# Altium schematic symbol library WE-XHMA.SchLib: 33 symbols
Pins are listed as number, name and electrical type; pins without a type are passive.

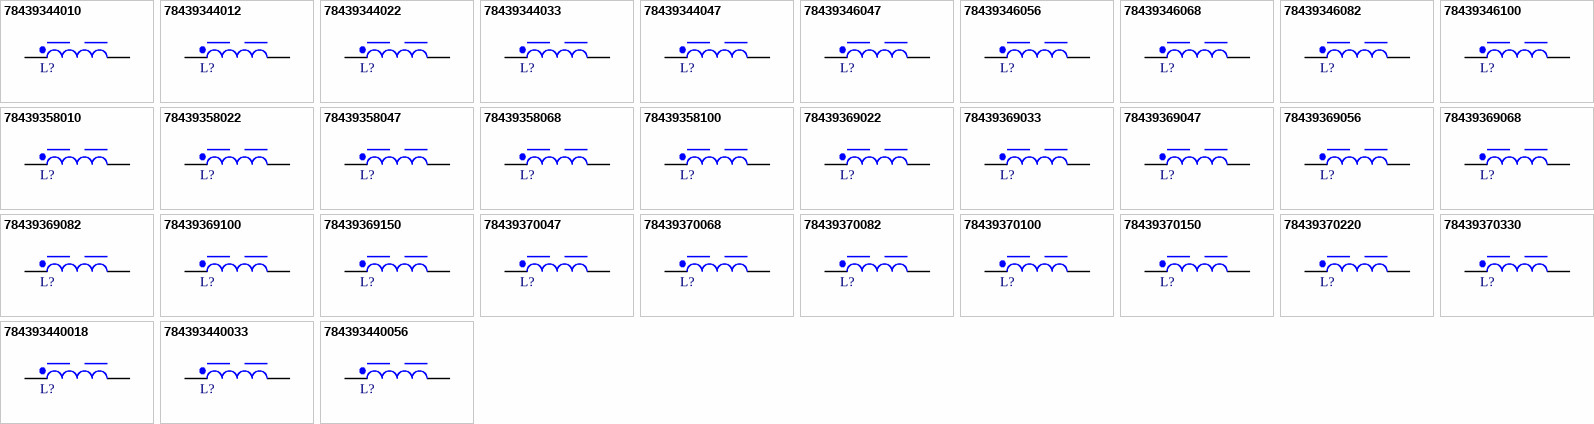
[diagram p0: symbols 78439344010 to 784393440056]

## 78439344010
designator L?, comment 1µH  (value not drawn)
WE-XHMA SMD Power Inductor, size 6030, 1µH, 12A, 5.5mΩ; Manufacturer Part Number: 78439344010; Manufacturer: Wurth Elektronik; Case/Size Code: 6030; Inductance Tolerance: 20%; Saturation Current: 24.95A; Self Resonant Frequency: 59MHz; ComponentLink1Description: Website Link; ComponentLink1URL: https://www.we-online.com/redexpert/article/78439344010?ad; ComponentLink2Description: Datasheet Link; ComponentLink2URL: https://www.we-online.com/redexpert/spec/78439344010?ad; Category: Shielded Power Inductors; Match Code: WE-XHMA; Mount: Surface Mount; Operating Temperature Max: 125°C; Operating Temperature Min: -40°C; Packaging: Tape and Reel; Length: 6.65mm; Width: 6.45mm; Height: 3mm; DC Resistance: 5.5mΩ; Inductance: 1µH; Rated Current: 12A
footprint WE-XHMA_6030
pins: 1, 2

## 78439344012
designator L?, comment 1.2µH  (value not drawn)
WE-XHMA SMD Power Inductor, size 6030, 1.2µH, 10.3A, 6.4mΩ; Manufacturer Part Number: 78439344012; Manufacturer: Wurth Elektronik; Case/Size Code: 6030; Inductance Tolerance: 20%; Saturation Current: 21.6A; Self Resonant Frequency: 53MHz; ComponentLink1Description: Website Link; ComponentLink1URL: https://www.we-online.com/redexpert/article/78439344012?ad; ComponentLink2Description: Datasheet Link; ComponentLink2URL: https://www.we-online.com/redexpert/spec/78439344012?ad; Category: Shielded Power Inductors; Match Code: WE-XHMA; Mount: Surface Mount; Operating Temperature Max: 125°C; Operating Temperature Min: -40°C; Packaging: Tape and Reel; Length: 6.65mm; Width: 6.45mm; Height: 3mm; DC Resistance: 6.4mΩ; Inductance: 1.2µH; Rated Current: 10.3A
footprint WE-XHMA_6030
pins: 1, 2

## 78439344022
designator L?, comment 2.2µH  (value not drawn)
WE-XHMA SMD Power Inductor, size 6030, 2.2µH, 8A, 10.5mΩ; Manufacturer Part Number: 78439344022; Manufacturer: Wurth Elektronik; Case/Size Code: 6030; Inductance Tolerance: 20%; Saturation Current: 16.25A; Self Resonant Frequency: 37MHz; ComponentLink1Description: Website Link; ComponentLink1URL: https://www.we-online.com/redexpert/article/78439344022?ad; ComponentLink2Description: Datasheet Link; ComponentLink2URL: https://www.we-online.com/redexpert/spec/78439344022?ad; Category: Shielded Power Inductors; Match Code: WE-XHMA; Mount: Surface Mount; Operating Temperature Max: 125°C; Operating Temperature Min: -40°C; Packaging: Tape and Reel; Length: 6.65mm; Width: 6.45mm; Height: 3mm; DC Resistance: 10.5mΩ; Inductance: 2.2µH; Rated Current: 8A
footprint WE-XHMA_6030
pins: 1, 2

## 78439344033
designator L?, comment 3.3µH  (value not drawn)
WE-XHMA SMD Power Inductor, size 6030, 3.3µH, 6A, 19.2mΩ; Manufacturer Part Number: 78439344033; Manufacturer: Wurth Elektronik; Case/Size Code: 6030; Inductance Tolerance: 20%; Saturation Current: 14.5A; Self Resonant Frequency: 31MHz; ComponentLink1Description: Website Link; ComponentLink1URL: https://www.we-online.com/redexpert/article/78439344033?ad; ComponentLink2Description: Datasheet Link; ComponentLink2URL: https://www.we-online.com/redexpert/spec/78439344033?ad; Category: Shielded Power Inductors; Match Code: WE-XHMA; Mount: Surface Mount; Operating Temperature Max: 125°C; Operating Temperature Min: -40°C; Packaging: Tape and Reel; Length: 6.65mm; Width: 6.45mm; Height: 3mm; DC Resistance: 19.2mΩ; Inductance: 3.3µH; Rated Current: 6A
footprint WE-XHMA_6030
pins: 1, 2

## 78439344047
designator L?, comment 4.7µH  (value not drawn)
WE-XHMA SMD Power Inductor, size 6030, 4.7µH, 4.7A, 31mΩ; Manufacturer Part Number: 78439344047; Manufacturer: Wurth Elektronik; Case/Size Code: 6030; Inductance Tolerance: 20%; Saturation Current: 10.5A; Self Resonant Frequency: 28MHz; ComponentLink1Description: Website Link; ComponentLink1URL: https://www.we-online.com/redexpert/article/78439344047?ad; ComponentLink2Description: Datasheet Link; ComponentLink2URL: https://www.we-online.com/redexpert/spec/78439344047?ad; Category: Shielded Power Inductors; Match Code: WE-XHMA; Mount: Surface Mount; Operating Temperature Max: 125°C; Operating Temperature Min: -40°C; Packaging: Tape and Reel; Length: 6.65mm; Width: 6.45mm; Height: 3mm; DC Resistance: 31mΩ; Inductance: 4.7µH; Rated Current: 4.7A
footprint WE-XHMA_6030
pins: 1, 2

## 78439346047
designator L?, comment 4.7µH  (value not drawn)
WE-XHMA SMD Power Inductor, size 6060, 4.7µH, 7.4A, 13mΩ; Manufacturer Part Number: 78439346047; Manufacturer: Wurth Elektronik; Case/Size Code: 6060; Inductance Tolerance: 20%; Saturation Current: 13A; Self Resonant Frequency: 28MHz; ComponentLink1Description: Website Link; ComponentLink1URL: https://www.we-online.com/redexpert/article/78439346047?ad; ComponentLink2Description: Datasheet Link; ComponentLink2URL: https://www.we-online.com/redexpert/spec/78439346047?ad; Category: Shielded Power Inductors; Match Code: WE-XHMA; Mount: Surface Mount; Operating Temperature Max: 125°C; Operating Temperature Min: -40°C; Packaging: Tape and Reel; Length: 6.65mm; Width: 6.45mm; Height: 5.8mm; DC Resistance: 13mΩ; Inductance: 4.7µH; Rated Current: 7.4A
footprint WE-XHMA_6060
pins: 1, 2

## 78439346056
designator L?, comment 5.6µH  (value not drawn)
WE-XHMA SMD Power Inductor, size 6060, 5.6µH, 6.9A, 15mΩ; Manufacturer Part Number: 78439346056; Manufacturer: Wurth Elektronik; Case/Size Code: 6060; Inductance Tolerance: 20%; Saturation Current: 12.1A; Self Resonant Frequency: 25MHz; ComponentLink1Description: Website Link; ComponentLink1URL: https://www.we-online.com/redexpert/article/78439346056?ad; ComponentLink2Description: Datasheet Link; ComponentLink2URL: https://www.we-online.com/redexpert/spec/78439346056?ad; Category: Shielded Power Inductors; Match Code: WE-XHMA; Mount: Surface Mount; Operating Temperature Max: 125°C; Operating Temperature Min: -40°C; Packaging: Tape and Reel; Length: 6.65mm; Width: 6.45mm; Height: 5.8mm; DC Resistance: 15mΩ; Inductance: 5.6µH; Rated Current: 6.9A
footprint WE-XHMA_6060
pins: 1, 2

## 78439346068
designator L?, comment 6.8µH  (value not drawn)
WE-XHMA SMD Power Inductor, size 6060, 6.8µH, 6.5A, 17.6mΩ; Manufacturer Part Number: 78439346068; Manufacturer: Wurth Elektronik; Case/Size Code: 6060; Inductance Tolerance: 20%; Saturation Current: 11.3A; Self Resonant Frequency: 22MHz; ComponentLink1Description: Website Link; ComponentLink1URL: https://www.we-online.com/redexpert/article/78439346068?ad; ComponentLink2Description: Datasheet Link; ComponentLink2URL: https://www.we-online.com/redexpert/spec/78439346068?ad; Category: Shielded Power Inductors; Match Code: WE-XHMA; Mount: Surface Mount; Operating Temperature Max: 125°C; Operating Temperature Min: -40°C; Packaging: Tape and Reel; Length: 6.65mm; Width: 6.45mm; Height: 5.8mm; DC Resistance: 17.6mΩ; Inductance: 6.8µH; Rated Current: 6.5A
footprint WE-XHMA_6060
pins: 1, 2

## 78439346082
designator L?, comment 8.2µH  (value not drawn)
WE-XHMA SMD Power Inductor, size 6060, 8.2µH, 5.3A, 23mΩ; Manufacturer Part Number: 78439346082; Manufacturer: Wurth Elektronik; Case/Size Code: 6060; Inductance Tolerance: 20%; Saturation Current: 9.3A; Self Resonant Frequency: 19MHz; ComponentLink1Description: Website Link; ComponentLink1URL: https://www.we-online.com/redexpert/article/78439346082?ad; ComponentLink2Description: Datasheet Link; ComponentLink2URL: https://www.we-online.com/redexpert/spec/78439346082?ad; Category: Shielded Power Inductors; Match Code: WE-XHMA; Mount: Surface Mount; Operating Temperature Max: 125°C; Operating Temperature Min: -40°C; Packaging: Tape and Reel; Length: 6.65mm; Width: 6.45mm; Height: 5.8mm; DC Resistance: 23mΩ; Inductance: 8.2µH; Rated Current: 5.3A
footprint WE-XHMA_6060
pins: 1, 2

## 78439346100
designator L?, comment 10µH  (value not drawn)
WE-XHMA SMD Power Inductor, size 6060, 10µH, 5A, 26.5mΩ; Manufacturer Part Number: 78439346100; Manufacturer: Wurth Elektronik; Case/Size Code: 6060; Inductance Tolerance: 20%; Saturation Current: 9.7A; Self Resonant Frequency: 18MHz; ComponentLink1Description: Website Link; ComponentLink1URL: https://www.we-online.com/redexpert/article/78439346100?ad; ComponentLink2Description: Datasheet Link; ComponentLink2URL: https://www.we-online.com/redexpert/spec/78439346100?ad; Category: Shielded Power Inductors; Match Code: WE-XHMA; Mount: Surface Mount; Operating Temperature Max: 125°C; Operating Temperature Min: -40°C; Packaging: Tape and Reel; Length: 6.65mm; Width: 6.45mm; Height: 5.8mm; DC Resistance: 26.5mΩ; Inductance: 10µH; Rated Current: 5A
footprint WE-XHMA_6060
pins: 1, 2

## 78439358010
designator L?, comment 1µH  (value not drawn)
WE-XHMA SMD Power Inductor, size 8080, 1µH, 17A, 2.1mΩ; Manufacturer Part Number: 78439358010; Manufacturer: Wurth Elektronik; Case/Size Code: 8080; Inductance Tolerance: 20%; Saturation Current: 38.15A; Self Resonant Frequency: 53MHz; ComponentLink1Description: Website Link; ComponentLink1URL: https://www.we-online.com/redexpert/article/78439358010?ad; ComponentLink2Description: Datasheet Link; ComponentLink2URL: https://www.we-online.com/redexpert/spec/78439358010?ad; Category: Shielded Power Inductors; Match Code: WE-XHMA; Mount: Surface Mount; Operating Temperature Max: 125°C; Operating Temperature Min: -40°C; Packaging: Tape and Reel; Length: 8.8mm; Width: 8.3mm; Height: 7.8mm; DC Resistance: 2.1mΩ; Inductance: 1µH; Rated Current: 17A
footprint WE-XHMA_8080
pins: 1, 2

## 78439358022
designator L?, comment 2.2µH  (value not drawn)
WE-XHMA SMD Power Inductor, size 8080, 2.2µH, 13A, 3.7mΩ; Manufacturer Part Number: 78439358022; Manufacturer: Wurth Elektronik; Case/Size Code: 8080; Inductance Tolerance: 20%; Saturation Current: 26.45A; Self Resonant Frequency: 33MHz; ComponentLink1Description: Website Link; ComponentLink1URL: https://www.we-online.com/redexpert/article/78439358022?ad; ComponentLink2Description: Datasheet Link; ComponentLink2URL: https://www.we-online.com/redexpert/spec/78439358022?ad; Category: Shielded Power Inductors; Match Code: WE-XHMA; Mount: Surface Mount; Operating Temperature Max: 125°C; Operating Temperature Min: -40°C; Packaging: Tape and Reel; Length: 8.8mm; Width: 8.3mm; Height: 7.8mm; DC Resistance: 3.7mΩ; Inductance: 2.2µH; Rated Current: 13A
footprint WE-XHMA_8080
pins: 1, 2

## 78439358047
designator L?, comment 4.7µH  (value not drawn)
WE-XHMA SMD Power Inductor, size 8080, 4.7µH, 9.5A, 8.65mΩ; Manufacturer Part Number: 78439358047; Manufacturer: Wurth Elektronik; Case/Size Code: 8080; Inductance Tolerance: 20%; Saturation Current: 16.65A; Self Resonant Frequency: 22MHz; ComponentLink1Description: Website Link; ComponentLink1URL: https://www.we-online.com/redexpert/article/78439358047?ad; ComponentLink2Description: Datasheet Link; ComponentLink2URL: https://www.we-online.com/redexpert/spec/78439358047?ad; Category: Shielded Power Inductors; Match Code: WE-XHMA; Mount: Surface Mount; Operating Temperature Max: 125°C; Operating Temperature Min: -40°C; Packaging: Tape and Reel; Length: 8.8mm; Width: 8.3mm; Height: 7.8mm; DC Resistance: 8.65mΩ; Inductance: 4.7µH; Rated Current: 9.5A
footprint WE-XHMA_8080
pins: 1, 2

## 78439358068
designator L?, comment 6.8µH  (value not drawn)
WE-XHMA SMD Power Inductor, size 8080, 6.8µH, 7.2A, 13mΩ; Manufacturer Part Number: 78439358068; Manufacturer: Wurth Elektronik; Case/Size Code: 8080; Inductance Tolerance: 20%; Saturation Current: 17.6A; Self Resonant Frequency: 22MHz; ComponentLink1Description: Website Link; ComponentLink1URL: https://www.we-online.com/redexpert/article/78439358068?ad; ComponentLink2Description: Datasheet Link; ComponentLink2URL: https://www.we-online.com/redexpert/spec/78439358068?ad; Category: Shielded Power Inductors; Match Code: WE-XHMA; Mount: Surface Mount; Operating Temperature Max: 125°C; Operating Temperature Min: -40°C; Packaging: Tape and Reel; Length: 8.8mm; Width: 8.3mm; Height: 7.8mm; DC Resistance: 13mΩ; Inductance: 6.8µH; Rated Current: 7.2A
footprint WE-XHMA_8080
pins: 1, 2

## 78439358100
designator L?, comment 10µH  (value not drawn)
WE-XHMA SMD Power Inductor, size 8080, 10µH, 5.8A, 19mΩ; Manufacturer Part Number: 78439358100; Manufacturer: Wurth Elektronik; Case/Size Code: 8080; Inductance Tolerance: 20%; Saturation Current: 13.5A; Self Resonant Frequency: 17MHz; ComponentLink1Description: Website Link; ComponentLink1URL: https://www.we-online.com/redexpert/article/78439358100?ad; ComponentLink2Description: Datasheet Link; ComponentLink2URL: https://www.we-online.com/redexpert/spec/78439358100?ad; Category: Shielded Power Inductors; Match Code: WE-XHMA; Mount: Surface Mount; Operating Temperature Max: 125°C; Operating Temperature Min: -40°C; Packaging: Tape and Reel; Length: 8.8mm; Width: 8.3mm; Height: 7.8mm; DC Resistance: 19mΩ; Inductance: 10µH; Rated Current: 5.8A
footprint WE-XHMA_8080
pins: 1, 2

## 78439369022
designator L?, comment 2.2µH  (value not drawn)
WE-XHMA SMD Power Inductor, size 1090, 2.2µH, 16A, 2.2mΩ; Manufacturer Part Number: 78439369022; Manufacturer: Wurth Elektronik; Case/Size Code: 1090; Inductance Tolerance: 20%; Saturation Current: 32.1A; Self Resonant Frequency: 28MHz; ComponentLink1Description: Website Link; ComponentLink1URL: https://www.we-online.com/redexpert/article/78439369022?ad; ComponentLink2Description: Datasheet Link; ComponentLink2URL: https://www.we-online.com/redexpert/spec/78439369022?ad; Category: Shielded Power Inductors; Match Code: WE-XHMA; Mount: Surface Mount; Operating Temperature Max: 125°C; Operating Temperature Min: -40°C; Packaging: Tape and Reel; Length: 11.6mm; Width: 10.5mm; Height: 8.8mm; DC Resistance: 2.2mΩ; Inductance: 2.2µH; Rated Current: 16A
footprint WE-XHMA_1090
pins: 1, 2

## 78439369033
designator L?, comment 3.3µH  (value not drawn)
WE-XHMA SMD Power Inductor, size 1090, 3.3µH, 15A, 3.4mΩ; Manufacturer Part Number: 78439369033; Manufacturer: Wurth Elektronik; Case/Size Code: 1090; Inductance Tolerance: 20%; Saturation Current: 34A; Self Resonant Frequency: 23MHz; ComponentLink1Description: Website Link; ComponentLink1URL: https://www.we-online.com/redexpert/article/78439369033?ad; ComponentLink2Description: Datasheet Link; ComponentLink2URL: https://www.we-online.com/redexpert/spec/78439369033?ad; Category: Shielded Power Inductors; Match Code: WE-XHMA; Mount: Surface Mount; Operating Temperature Max: 125°C; Operating Temperature Min: -40°C; Packaging: Tape and Reel; Length: 11.6mm; Width: 10.5mm; Height: 8.8mm; DC Resistance: 3.4mΩ; Inductance: 3.3µH; Rated Current: 15A
footprint WE-XHMA_1090
pins: 1, 2

## 78439369047
designator L?, comment 4.7µH  (value not drawn)
WE-XHMA SMD Power Inductor, size 1090, 4.7µH, 13.5A, 5mΩ; Manufacturer Part Number: 78439369047; Manufacturer: Wurth Elektronik; Case/Size Code: 1090; Inductance Tolerance: 20%; Saturation Current: 28.05A; Self Resonant Frequency: 21MHz; ComponentLink1Description: Website Link; ComponentLink1URL: https://www.we-online.com/redexpert/article/78439369047?ad; ComponentLink2Description: Datasheet Link; ComponentLink2URL: https://www.we-online.com/redexpert/spec/78439369047?ad; Category: Shielded Power Inductors; Match Code: WE-XHMA; Mount: Surface Mount; Operating Temperature Max: 125°C; Operating Temperature Min: -40°C; Packaging: Tape and Reel; Length: 11.6mm; Width: 10.5mm; Height: 8.8mm; DC Resistance: 5mΩ; Inductance: 4.7µH; Rated Current: 13.5A
footprint WE-XHMA_1090
pins: 1, 2

## 78439369056
designator L?, comment 5.6µH  (value not drawn)
WE-XHMA SMD Power Inductor, size 1090, 5.6µH, 11.5A, 5.9mΩ; Manufacturer Part Number: 78439369056; Manufacturer: Wurth Elektronik; Case/Size Code: 1090; Inductance Tolerance: 20%; Saturation Current: 24.45A; Self Resonant Frequency: 18MHz; ComponentLink1Description: Website Link; ComponentLink1URL: https://www.we-online.com/redexpert/article/78439369056?ad; ComponentLink2Description: Datasheet Link; ComponentLink2URL: https://www.we-online.com/redexpert/spec/78439369056?ad; Category: Shielded Power Inductors; Match Code: WE-XHMA; Mount: Surface Mount; Operating Temperature Max: 125°C; Operating Temperature Min: -40°C; Packaging: Tape and Reel; Length: 11.6mm; Width: 10.5mm; Height: 8.8mm; DC Resistance: 5.9mΩ; Inductance: 5.6µH; Rated Current: 11.5A
footprint WE-XHMA_1090
pins: 1, 2

## 78439369068
designator L?, comment 6.8µH  (value not drawn)
WE-XHMA SMD Power Inductor, size 1090, 6.8µH, 10.5A, 7.16mΩ; Manufacturer Part Number: 78439369068; Manufacturer: Wurth Elektronik; Case/Size Code: 1090; Inductance Tolerance: 20%; Saturation Current: 23.25A; Self Resonant Frequency: 16MHz; ComponentLink1Description: Website Link; ComponentLink1URL: https://www.we-online.com/redexpert/article/78439369068?ad; ComponentLink2Description: Datasheet Link; ComponentLink2URL: https://www.we-online.com/redexpert/spec/78439369068?ad; Category: Shielded Power Inductors; Match Code: WE-XHMA; Mount: Surface Mount; Operating Temperature Max: 125°C; Operating Temperature Min: -40°C; Packaging: Tape and Reel; Length: 11.6mm; Width: 10.5mm; Height: 8.8mm; DC Resistance: 7.16mΩ; Inductance: 6.8µH; Rated Current: 10.5A
footprint WE-XHMA_1090
pins: 1, 2

## 78439369082
designator L?, comment 8.2µH  (value not drawn)
WE-XHMA SMD Power Inductor, size 1090, 8.2µH, 9.8A, 10mΩ; Manufacturer Part Number: 78439369082; Manufacturer: Wurth Elektronik; Case/Size Code: 1090; Inductance Tolerance: 20%; Saturation Current: 20.45A; Self Resonant Frequency: 16MHz; ComponentLink1Description: Website Link; ComponentLink1URL: https://www.we-online.com/redexpert/article/78439369082?ad; ComponentLink2Description: Datasheet Link; ComponentLink2URL: https://www.we-online.com/redexpert/spec/78439369082?ad; Category: Shielded Power Inductors; Match Code: WE-XHMA; Mount: Surface Mount; Operating Temperature Max: 125°C; Operating Temperature Min: -40°C; Packaging: Tape and Reel; Length: 11.6mm; Width: 10.5mm; Height: 8.8mm; DC Resistance: 10mΩ; Inductance: 8.2µH; Rated Current: 9.8A
footprint WE-XHMA_1090
pins: 1, 2

## 78439369100
designator L?, comment 10µH  (value not drawn)
WE-XHMA SMD Power Inductor, size 1090, 10µH, 9.4A, 11mΩ; Manufacturer Part Number: 78439369100; Manufacturer: Wurth Elektronik; Case/Size Code: 1090; Inductance Tolerance: 20%; Saturation Current: 20.3A; Self Resonant Frequency: 14MHz; ComponentLink1Description: Website Link; ComponentLink1URL: https://www.we-online.com/redexpert/article/78439369100?ad; ComponentLink2Description: Datasheet Link; ComponentLink2URL: https://www.we-online.com/redexpert/spec/78439369100?ad; Category: Shielded Power Inductors; Match Code: WE-XHMA; Mount: Surface Mount; Operating Temperature Max: 125°C; Operating Temperature Min: -40°C; Packaging: Tape and Reel; Length: 11.6mm; Width: 10.5mm; Height: 8.8mm; DC Resistance: 11mΩ; Inductance: 10µH; Rated Current: 9.4A
footprint WE-XHMA_1090
pins: 1, 2

## 78439369150
designator L?, comment 15µH  (value not drawn)
WE-XHMA SMD Power Inductor, size 1090, 15µH, 8.3A, 14.8mΩ; Manufacturer Part Number: 78439369150; Manufacturer: Wurth Elektronik; Case/Size Code: 1090; Inductance Tolerance: 20%; Saturation Current: 16.95A; Self Resonant Frequency: 11MHz; ComponentLink1Description: Website Link; ComponentLink1URL: https://www.we-online.com/redexpert/article/78439369150?ad; ComponentLink2Description: Datasheet Link; ComponentLink2URL: https://www.we-online.com/redexpert/spec/78439369150?ad; Category: Shielded Power Inductors; Match Code: WE-XHMA; Mount: Surface Mount; Operating Temperature Max: 125°C; Operating Temperature Min: -40°C; Packaging: Tape and Reel; Length: 11.6mm; Width: 10.5mm; Height: 8.8mm; DC Resistance: 14.8mΩ; Inductance: 15µH; Rated Current: 8.3A
footprint WE-XHMA_1090
pins: 1, 2

## 78439370047
designator L?, comment 4.7µH  (value not drawn)
WE-XHMA SMD Power Inductor, size 1510, 4.7µH, 17A, 3.1mΩ; Manufacturer Part Number: 78439370047; Manufacturer: Wurth Elektronik; Case/Size Code: 1510; Inductance Tolerance: 20%; Saturation Current: 47.4A; Self Resonant Frequency: 16MHz; ComponentLink1Description: Website Link; ComponentLink1URL: https://www.we-online.com/redexpert/article/78439370047?ad; ComponentLink2Description: Datasheet Link; ComponentLink2URL: https://www.we-online.com/redexpert/spec/78439370047?ad; Category: Shielded Power Inductors; Match Code: WE-XHMA; Mount: Surface Mount; Operating Temperature Max: 125°C; Operating Temperature Min: -40°C; Packaging: Tape and Reel; Length: 16.4mm; Width: 15.4mm; Height: 10mm; DC Resistance: 3.1mΩ; Inductance: 4.7µH; Rated Current: 17A
footprint WE-XHMA_1510
pins: 1, 2

## 78439370068
designator L?, comment 6.8µH  (value not drawn)
WE-XHMA SMD Power Inductor, size 1510, 6.8µH, 15A, 4.1mΩ; Manufacturer Part Number: 78439370068; Manufacturer: Wurth Elektronik; Case/Size Code: 1510; Inductance Tolerance: 20%; Saturation Current: 40.05A; Self Resonant Frequency: 14MHz; ComponentLink1Description: Website Link; ComponentLink1URL: https://www.we-online.com/redexpert/article/78439370068?ad; ComponentLink2Description: Datasheet Link; ComponentLink2URL: https://www.we-online.com/redexpert/spec/78439370068?ad; Category: Shielded Power Inductors; Match Code: WE-XHMA; Mount: Surface Mount; Operating Temperature Max: 125°C; Operating Temperature Min: -40°C; Packaging: Tape and Reel; Length: 16.4mm; Width: 15.4mm; Height: 10mm; DC Resistance: 4.1mΩ; Inductance: 6.8µH; Rated Current: 15A
footprint WE-XHMA_1510
pins: 1, 2

## 78439370082
designator L?, comment 8.2µH  (value not drawn)
WE-XHMA SMD Power Inductor, size 1510, 8.2µH, 13A, 5.5mΩ; Manufacturer Part Number: 78439370082; Manufacturer: Wurth Elektronik; Case/Size Code: 1510; Inductance Tolerance: 20%; Saturation Current: 36.4A; Self Resonant Frequency: 11MHz; ComponentLink1Description: Website Link; ComponentLink1URL: https://www.we-online.com/redexpert/article/78439370082?ad; ComponentLink2Description: Datasheet Link; ComponentLink2URL: https://www.we-online.com/redexpert/spec/78439370082?ad; Category: Shielded Power Inductors; Match Code: WE-XHMA; Mount: Surface Mount; Operating Temperature Max: 125°C; Operating Temperature Min: -40°C; Packaging: Tape and Reel; Length: 16.4mm; Width: 15.4mm; Height: 10mm; DC Resistance: 5.5mΩ; Inductance: 8.2µH; Rated Current: 13A
footprint WE-XHMA_1510
pins: 1, 2

## 78439370100
designator L?, comment 10µH  (value not drawn)
WE-XHMA SMD Power Inductor, size 1510, 10µH, 11.5A, 6.4mΩ; Manufacturer Part Number: 78439370100; Manufacturer: Wurth Elektronik; Case/Size Code: 1510; Inductance Tolerance: 20%; Saturation Current: 31.2A; Self Resonant Frequency: 9MHz; ComponentLink1Description: Website Link; ComponentLink1URL: https://www.we-online.com/redexpert/article/78439370100?ad; ComponentLink2Description: Datasheet Link; ComponentLink2URL: https://www.we-online.com/redexpert/spec/78439370100?ad; Category: Shielded Power Inductors; Match Code: WE-XHMA; Mount: Surface Mount; Operating Temperature Max: 125°C; Operating Temperature Min: -40°C; Packaging: Tape and Reel; Length: 16.4mm; Width: 15.4mm; Height: 10mm; DC Resistance: 6.4mΩ; Inductance: 10µH; Rated Current: 11.5A
footprint WE-XHMA_1510
pins: 1, 2

## 78439370150
designator L?, comment 15µH  (value not drawn)
WE-XHMA SMD Power Inductor, size 1510, 15µH, 10A, 10.5mΩ; Manufacturer Part Number: 78439370150; Manufacturer: Wurth Elektronik; Case/Size Code: 1510; Inductance Tolerance: 20%; Saturation Current: 26.1A; Self Resonant Frequency: 8MHz; ComponentLink1Description: Website Link; ComponentLink1URL: https://www.we-online.com/redexpert/article/78439370150?ad; ComponentLink2Description: Datasheet Link; ComponentLink2URL: https://www.we-online.com/redexpert/spec/78439370150?ad; Category: Shielded Power Inductors; Match Code: WE-XHMA; Mount: Surface Mount; Operating Temperature Max: 125°C; Operating Temperature Min: -40°C; Packaging: Tape and Reel; Length: 16.4mm; Width: 15.4mm; Height: 10mm; DC Resistance: 10.5mΩ; Inductance: 15µH; Rated Current: 10A
footprint WE-XHMA_1510
pins: 1, 2

## 78439370220
designator L?, comment 22µH  (value not drawn)
WE-XHMA SMD Power Inductor, size 1510, 22µH, 8A, 12.5mΩ; Manufacturer Part Number: 78439370220; Manufacturer: Wurth Elektronik; Case/Size Code: 1510; Inductance Tolerance: 20%; Saturation Current: 22.35A; Self Resonant Frequency: 7MHz; ComponentLink1Description: Website Link; ComponentLink1URL: https://www.we-online.com/redexpert/article/78439370220?ad; ComponentLink2Description: Datasheet Link; ComponentLink2URL: https://www.we-online.com/redexpert/spec/78439370220?ad; Category: Shielded Power Inductors; Match Code: WE-XHMA; Mount: Surface Mount; Operating Temperature Max: 125°C; Operating Temperature Min: -40°C; Packaging: Tape and Reel; Length: 16.4mm; Width: 15.4mm; Height: 10mm; DC Resistance: 12.5mΩ; Inductance: 22µH; Rated Current: 8A
footprint WE-XHMA_1510
pins: 1, 2

## 78439370330
designator L?, comment 33µH  (value not drawn)
WE-XHMA SMD Power Inductor, size 1510, 33µH, 8.5A, 18mΩ; Manufacturer Part Number: 78439370330; Manufacturer: Wurth Elektronik; Case/Size Code: 1510; Inductance Tolerance: 20%; Saturation Current: 18.15A; Self Resonant Frequency: 5MHz; ComponentLink1Description: Website Link; ComponentLink1URL: https://www.we-online.com/redexpert/article/78439370330?ad; ComponentLink2Description: Datasheet Link; ComponentLink2URL: https://www.we-online.com/redexpert/spec/78439370330?ad; Category: Shielded Power Inductors; Match Code: WE-XHMA; Mount: Surface Mount; Operating Temperature Max: 125°C; Operating Temperature Min: -40°C; Packaging: Tape and Reel; Length: 16.4mm; Width: 15.4mm; Height: 10mm; DC Resistance: 18mΩ; Inductance: 33µH; Rated Current: 8.5A
footprint WE-XHMA_1510
pins: 1, 2

## 784393440018
designator L?, comment 0.18µH  (value not drawn)
WE-XHMA SMD Power Inductor, size 6030, 0.18µH, 20A, 1.32mΩ; Manufacturer Part Number: 784393440018; Manufacturer: Wurth Elektronik; Case/Size Code: 6030; Inductance Tolerance: 20%; Saturation Current: 50.6A; Self Resonant Frequency: 169MHz; ComponentLink1Description: Website Link; ComponentLink1URL: https://www.we-online.com/redexpert/article/784393440018?ad; ComponentLink2Description: Datasheet Link; ComponentLink2URL: https://www.we-online.com/redexpert/spec/784393440018?ad; Category: Shielded Power Inductors; Match Code: WE-XHMA; Mount: Surface Mount; Operating Temperature Max: 125°C; Operating Temperature Min: -40°C; Packaging: Tape and Reel; Length: 6.65mm; Width: 6.45mm; Height: 3mm; DC Resistance: 1.32mΩ; Inductance: 0.18µH; Rated Current: 20A
footprint WE-XHMA_6030
pins: 1, 2

## 784393440033
designator L?, comment 0.33µH  (value not drawn)
WE-XHMA SMD Power Inductor, size 6030, 0.33µH, 16.5A, 2.1mΩ; Manufacturer Part Number: 784393440033; Manufacturer: Wurth Elektronik; Case/Size Code: 6030; Inductance Tolerance: 20%; Saturation Current: 42.9A; Self Resonant Frequency: 113MHz; ComponentLink1Description: Website Link; ComponentLink1URL: https://www.we-online.com/redexpert/article/784393440033?ad; ComponentLink2Description: Datasheet Link; ComponentLink2URL: https://www.we-online.com/redexpert/spec/784393440033?ad; Category: Shielded Power Inductors; Match Code: WE-XHMA; Mount: Surface Mount; Operating Temperature Max: 125°C; Operating Temperature Min: -40°C; Packaging: Tape and Reel; Length: 6.65mm; Width: 6.45mm; Height: 3mm; DC Resistance: 2.1mΩ; Inductance: 0.33µH; Rated Current: 16.5A
footprint WE-XHMA_6030
pins: 1, 2

## 784393440056
designator L?, comment 0.56µH  (value not drawn)
WE-XHMA SMD Power Inductor, size 6030, 0.56µH, 16A, 2.9mΩ; Manufacturer Part Number: 784393440056; Manufacturer: Wurth Elektronik; Case/Size Code: 6030; Inductance Tolerance: 20%; Saturation Current: 30.8A; Self Resonant Frequency: 77MHz; ComponentLink1Description: Website Link; ComponentLink1URL: https://www.we-online.com/redexpert/article/784393440056?ad; ComponentLink2Description: Datasheet Link; ComponentLink2URL: https://www.we-online.com/redexpert/spec/784393440056?ad; Category: Shielded Power Inductors; Match Code: WE-XHMA; Mount: Surface Mount; Operating Temperature Max: 125°C; Operating Temperature Min: -40°C; Packaging: Tape and Reel; Length: 6.65mm; Width: 6.45mm; Height: 3mm; DC Resistance: 2.9mΩ; Inductance: 0.56µH; Rated Current: 16A
footprint WE-XHMA_6030
pins: 1, 2